# EAGLE library part ATTINY13*M (library avr)
MICROCONTROLLER 1 Kbytes FLASH 64 bytes EEPROM 64 bytes RAM 4-channel 10 bit ADC
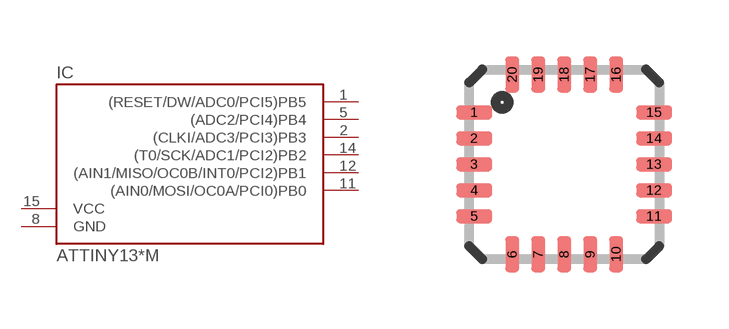
[diagram p60: symbol with the pads of MLF20; footprint MLF20]

Designator prefix IC

## ATTINY13-20M, ATTINY13V-10M  [MLF20]
1  (RESET/DW/ADC0/PCI5)PB5
2  (CLKI/ADC3/PCI3)PB3
3  P$1  nc
4  P$2  nc
5  (ADC2/PCI4)PB4
6  P$3  nc
7  P$4  nc
8  GND  pwr
9  P$5  nc
10  P$6  nc
11  (AIN0/MOSI/OC0A/PCI0)PB0
12  (AIN1/MISO/OC0B/INT0/PCI2)PB1
13  P$7  nc
14  (T0/SCK/ADC1/PCI2)PB2
15  VCC  pwr
16  P$8  nc
17  P$9  nc
18  P$10  nc
19  P$11  nc
20  P$12  nc

## Footprint MLF20 (pad centres in mm)
HP-VFQFP-N20 Micro Lead Frame package (MLF)
smd 0.9 x 0.35: 1 -2.25,1.3; 2 -2.25,0.65; 3 -2.25,0; 4 -2.25,-0.65; 5 -2.25,-1.3; 11 2.25,-1.3; 12 2.25,-0.65; 13 2.25,0; 14 2.25,0.65; 15 2.25,1.3
smd 0.35 x 0.9: 6 -1.3,-2.25; 7 -0.65,-2.25; 8 0,-2.25; 9 0.65,-2.25; 10 1.3,-2.25; 16 1.3,2.25; 17 0.65,2.25; 18 0,2.25; 19 -0.65,2.25; 20 -1.3,2.25